# EAGLE library part 9-1462038-9 (library bontor)
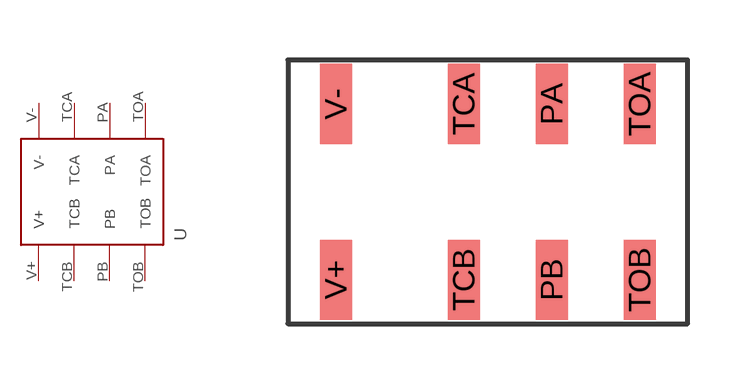
[diagram p16: symbol with the pads of TE-9-1462038-9; footprint TE-9-1462038-9]

Designator prefix -

## 9-1462038-9  [TE-9-1462038-9]
PA  PA
PB  PB
TCA  TCA
TCB  TCB
TOA  TOA
TOB  TOB
V+  V+
V-  V-

## Footprint TE-9-1462038-9 (pad centres in mm)
smd 0.8 x 2: PA 1.6,2.2; PB 1.6,-2.2; TCA -0.6,2.2; TCB -0.6,-2.2; TOA 3.8,2.2; TOB 3.8,-2.2; V+ -3.8,-2.2; V- -3.8,2.2